# EAGLE library part DMS-20LCD (library rgb_cube)
Murata DMS-20LCD Datasheet: Murata Link <http://www.murata-ps.com/data/meters/20lcd.pdf>
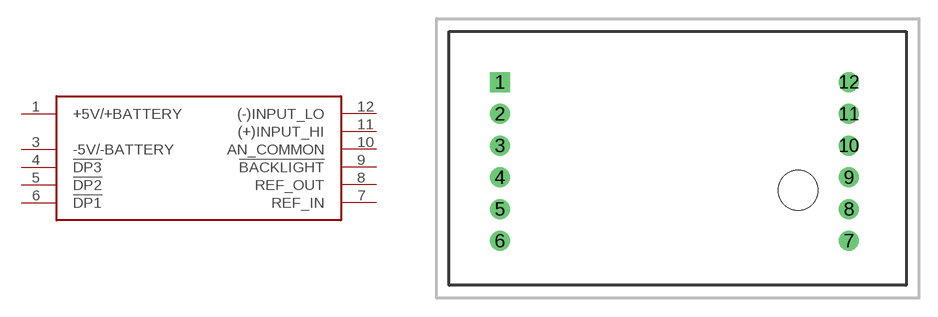
[diagram p67: symbol with the pads of DMS-20LCD; footprint DMS-20LCD]

Designator prefix -

## DMS-20LCD  [DMS-20LCD]
1  +5V/+BATTERY
3  -5V/-BATTERY
4  !DP3
5  !DP2
6  !DP1
7  REF_IN
8  REF_OUT
9  !BACKLIGHT
10  AN_COMMON
11  (+)INPUT_HI
12  (-)INPUT_LO

## Footprint DMS-20LCD (pad centres in mm)
drill 1.067 square: 1 0,0
drill 1.067 round: 2 0,-2.54; 3 0,-5.08; 4 0,-7.62; 5 0,-10.16; 6 0,-12.7; 7 27.94,-12.7; 8 27.94,-10.16; 9 27.94,-7.62; 10 27.94,-5.08; 11 27.94,-2.54; 12 27.94,0
hole 3.175 at 23.876,-8.636